# EAGLE library part ESP32 (library Wifi_Module)
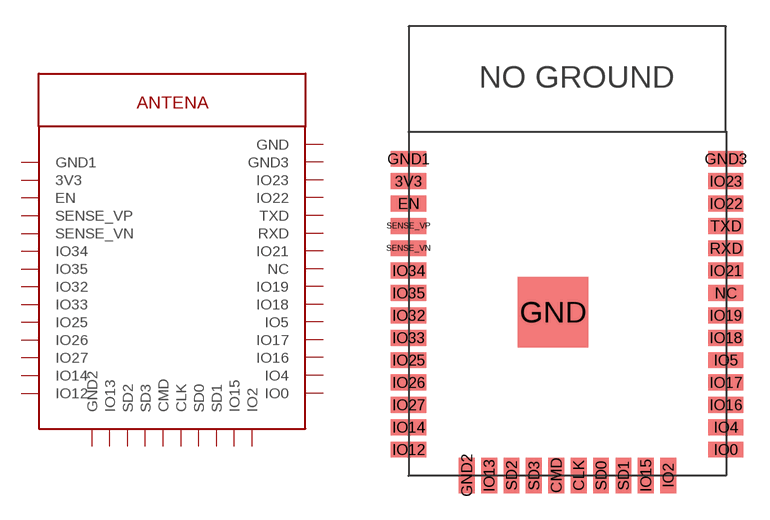
[diagram p0: symbol with the pads of ESP32; footprint ESP32]

Designator prefix -

## ESP32  [ESP32]
3V3  3V3
CLK  CLK
CMD  CMD
EN  EN
GND  GND
GND1  GND1
GND2  GND2
GND3  GND3
IO0  IO0
IO2  IO2
IO4  IO4
IO5  IO5
IO12  IO12
IO13  IO13
IO14  IO14
IO15  IO15
IO16  IO16
IO17  IO17
IO18  IO18
IO19  IO19
IO21  IO21
IO22  IO22
IO23  IO23
IO25  IO25
IO26  IO26
IO27  IO27
IO32  IO32
IO33  IO33
IO34  IO34
IO35  IO35
NC  NC
RXD  RXD
SD0  SD0
SD1  SD1
SD2  SD2
SD3  SD3
SENSE_VN  SENSE_VN
SENSE_VP  SENSE_VP
TXD  TXD

## Footprint ESP32 (pad centres in mm)
smd 2 x 0.9: 3V3 0,16.71; EN 0,15.44; GND1 0,17.98; GND3 18,17.98; IO0 18,1.47; IO4 18,2.74; IO5 18,6.55; IO12 0,1.47; IO14 0,2.74; IO16 18,4.01; IO17 18,5.28; IO18 18,7.82; IO19 18,9.09; IO21 18,11.63; IO22 18,15.44; IO23 18,16.71; IO25 0,6.55; IO26 0,5.28; IO27 0,4.01; IO32 0,9.09; IO33 0,7.82; IO34 0,11.63; IO35 0,10.36; NC 18,10.36; RXD 18,12.9; SENSE_VN 0,12.9; SENSE_VP 0,14.17; TXD 18,14.17
smd 0.9 x 2: CLK 9.65,0; CMD 8.38,0; GND2 3.3,0; IO2 14.73,0; IO13 4.57,0; IO15 13.46,0; SD0 10.92,0; SD1 12.19,0; SD2 5.84,0; SD3 7.11,0
smd 4 x 4: GND 8.2,9.28